# Altium schematic symbol library MCP4921.SchLib: 1 symbol
Pins are listed as number, name and electrical type; pins without a type are passive.

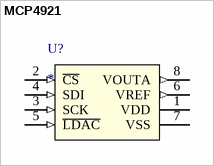
[diagram p0: symbol MCP4921]

## MCP4921
designator U?
pins: 1 VDD (power), 2 ~{CS} (in), 3 SCK (in), 4 SDI (in), 5 ~{LDAC} (in), 6 VREF (out), 7 VSS (power), 8 VOUTA (out)